# EAGLE library part LVSHFT (library lz-shield)
https://www.switch-science.com/catalog/1779/
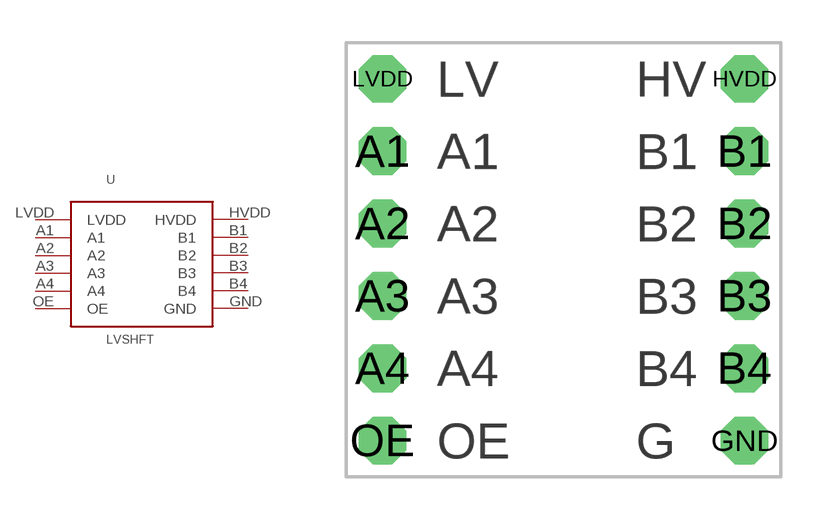
[diagram p12: symbol with the pads of LVLSFT; footprint LVLSFT]

Designator prefix -

## LVSHFT  [LVLSFT]
A1  A1
A2  A2
A3  A3
A4  A4
B1  B1
B2  B2
B3  B3
B4  B4
GND  GND
HVDD  HVDD
LVDD  LVDD
OE  OE

## Footprint LVLSFT (pad centres in mm)
drill 0.8 pad 1.676 octagon: A1 -6.35,3.81; A2 -6.35,1.27; A3 -6.35,-1.27; A4 -6.35,-3.81; B1 6.35,3.81; B2 6.35,1.27; B3 6.35,-1.27; B4 6.35,-3.81; GND 6.35,-6.35; HVDD 6.35,6.35; LVDD -6.35,6.35; OE -6.35,-6.35